# Altium footprint library mix.PcbLib: 25 footprints (part 2 of 2)
Each footprint in its own frame and in the unit in brackets; x right, y up, seen from the top. Pads: shape width x height; smd on the part's side, far side on the other; paste and mask are expansions set on the pad; w line width, h text height; cw(c..) or ccw(c..) is an arc to the next point about the centre after c.
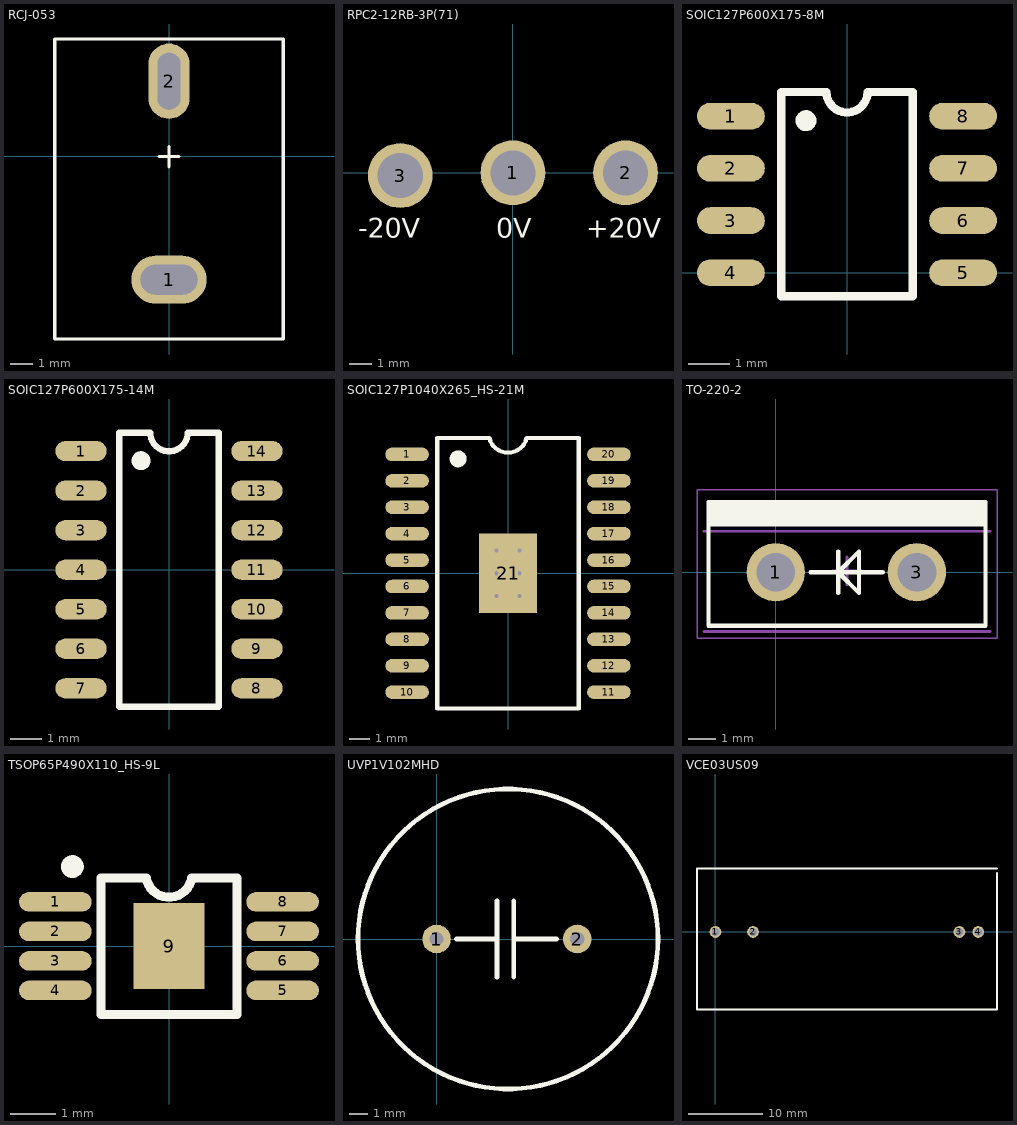
[diagram p1: the footprints below, top view; thin cyan lines are the x and y axes]

## RCJ-053 [mm]
pads (2):
  oval 3.3x2.1 hole 1.3 slot 2.5 at 0 deg: 1(0,-5.4)
  oval 1.8x3.3 hole 2.5 slot 1 at 0 deg: 2(0,3.3)
Top Overlay:
  lines w0.15: -0.425,0 0.425,0 ; 0,-0.45 0,0.425 ; -5,-8 -5,5.15 5,5.15 5,-8 -5,-8
3D body "CUI_INC_RCJ-053.step": height 19.5, standoff -4, extent -5,-8 5,5

## RPC2-12RB-3P(71) [mil]
pads (3):
  round 115 hole 80: 1(0,0) 2(200,0) 3(-200,-5)
Top Overlay:
  text "+20V" at 130,-115 h35
  text "-20V" at -275,-115 h35
  text "0V" at -30,-115 h35
3D body "RPC2-12RB-3P.stp": height 511.81, standoff -236.22, extent -570.87,-39.37 570.87,846.46

## SOIC127P600X175-8M [mm] "SOIC, 14-Leads, Body 8.65x3.90mm, Pitch 1.27mm, IPC Low Density"
height 1.75
pads (8):
  oval 1.65x0.65 smd: 1(-2.825,3.81) 2(-2.825,2.54) 3(-2.825,1.27) 4(-2.825,0) 5(2.825,0) 6(2.825,1.27) 7(2.825,2.54) 8(2.825,3.81)
Top Overlay:
  circle w0.254: c-1,3.7 r0.127
  lines w0.2: -1.6,-0.572 -1.6,4.4 -0.5,4.4 ccw(c0,4.4) 0.5,4.4 1.6,4.4 1.6,-0.572 -1.6,-0.572
3D body "SOIC08 narrow.stp": height 2, standoff 0, extent -3.082,-0.625 3.082,4.375

## SOIC127P600X175-14M [mm] "SOIC, 14-Leads, Body 8.65x3.90mm, Pitch 1.27mm, IPC Low Density"
height 1.75
pads (14):
  oval 1.65x0.65 smd: 1(-2.825,3.81) 2(-2.825,2.54) 3(-2.825,1.27) 4(-2.825,0) 5(-2.825,-1.27) 6(-2.825,-2.54) 7(-2.825,-3.81) 8(2.825,-3.81) 9(2.825,-2.54) 10(2.825,-1.27) 11(2.825,0) 12(2.825,1.27) 13(2.825,2.54) 14(2.825,3.81)
Top Overlay:
  circle w0.305: c-0.9,3.5 r0.152
  lines w0.2: -1.6,-4.4 -1.6,4.4 -0.6,4.4 ccw(c0,4.4) 0.6,4.4 1.6,4.4 1.6,-4.4 -1.6,-4.4
3D body "SOIC127P600X175-14M.step": height 1.75, standoff 0, extent -3,-4.4 3,4.4

## SOIC127P1040X265_HS-21M [mm] "SOIC, 20-Leads, Body 12.83x7.52mm, Pitch 1.27mm, Thermal Pad 3.81x2.79mm, IPC Low Density"
height 2.65
pads (21):
  oval 2.1x0.65 smd: 1(-4.85,5.715) 2(-4.85,4.445) 3(-4.85,3.175) 4(-4.85,1.905) 5(-4.85,0.635) 6(-4.85,-0.635) 7(-4.85,-1.905) 8(-4.85,-3.175) 9(-4.85,-4.445) 10(-4.85,-5.715) 11(4.85,-5.715) 12(4.85,-4.445) 13(4.85,-3.175) 14(4.85,-1.905) 15(4.85,-0.635) 16(4.85,0.635) 17(4.85,1.905) 18(4.85,3.175) 19(4.85,4.445) 20(4.85,5.715)
  rect 2.79x3.81 smd: 21(0,0)
via 0.55,-1.1 diameter 0.5 hole 0.2
via -0.55,-1.1 diameter 0.5 hole 0.2
via 0.55,0 diameter 0.5 hole 0.2
via -0.55,0 diameter 0.5 hole 0.2
via 0.55,1.1 diameter 0.5 hole 0.2
via -0.55,1.1 diameter 0.5 hole 0.2
Top Overlay:
  circle w0.406: c-2.4,5.5 r0.203
  lines w0.2: -3.4,-6.5 3.4,-6.5 3.4,6.5 0.9,6.5 cw(c0,6.729) -0.9,6.5 -3.4,6.5 -3.4,-6.5
3D body "SOIC127P1040X265_HS-21M.step": height 2.65, standoff 0, extent -5.202,-6.5 5.202,6.5

## TO-220-2 [mm]
height 18
pads (2):
  round 2.1 hole 1.4: 1(0,0) 3(5.08,0)
Top Overlay:
  rectangle: -2.425,1.65 7.55,2.525
  lines w0.15: 1.25,0 3.85,0 ; 2.25,-0.75 2.25,0.75 ; -2.425,-1.925 7.55,-1.925 7.55,2.525 -2.425,2.525 -2.425,-1.925 ; 2.25,0 3,0.75 3,-0.75 2.25,0
Mechanical 13:
  lines w0.1: -2.585,-2.129 7.715,-2.129 ; -2.585,1.471 7.715,1.471
Mechanical 15:
  lines w0.05: -2.835,-2.379 7.965,-2.379 7.965,2.971 -2.835,2.971 -2.835,-2.379
  lines w0.1: 2.065,0.051 3.065,0.051 ; 2.565,-0.449 2.565,0.551
3D body: height 2.79, standoff 0, extent -0.64,-0.199 0.69,0.301
3D body: height 0, standoff -1.6, extent -0.385,-0.199 0.435,0.301
3D body: height 2.79, standoff 0, extent 4.44,-0.199 5.77,0.301
3D body: height 0, standoff -1.6, extent 4.695,-0.199 5.515,0.301
3D body: height 12.8, standoff 2.79, extent -2.585,-2.129 7.715,2.721
3D body: height 14.33, standoff 12.8, extent -2.41,1.471 7.54,2.721
3D body: height 14.37, standoff 14.33, extent -2.41,1.471 2.19,2.721
3D body: height 14.37, standoff 14.33, extent 2.941,1.471 7.54,2.721
3D body: height 18.18, standoff 18.14, extent -2.41,1.471 2.19,2.721
3D body: height 18.18, standoff 18.14, extent 2.941,1.471 7.54,2.721
3D body: height 14.48, standoff 14.36, extent -2.41,1.471 1.829,2.721
3D body: height 14.48, standoff 14.36, extent 3.302,1.471 7.54,2.721
3D body: height 18.14, standoff 18.03, extent -2.41,1.471 1.829,2.721
3D body: height 18.14, standoff 18.03, extent 3.302,1.471 7.54,2.721
3D body: height 14.65, standoff 14.47, extent -2.41,1.471 1.496,2.721
3D body: height 14.65, standoff 14.47, extent 3.635,1.471 7.54,2.721
3D body: height 18.03, standoff 17.85, extent -2.41,1.471 1.496,2.721
3D body: height 18.03, standoff 17.85, extent 3.635,1.471 7.54,2.721
3D body: height 14.89, standoff 14.65, extent -2.41,1.471 1.204,2.721
3D body: height 14.89, standoff 14.65, extent 3.927,1.471 7.54,2.721
3D body: height 17.86, standoff 17.61, extent -2.41,1.471 1.204,2.721
3D body: height 17.86, standoff 17.61, extent 3.927,1.471 7.54,2.721
3D body: height 15.19, standoff 14.89, extent -2.41,1.471 0.965,2.721
3D body: height 15.19, standoff 14.89, extent 4.166,1.471 7.54,2.721
3D body: height 17.62, standoff 17.32, extent -2.41,1.471 0.965,2.721
3D body: height 17.62, standoff 17.32, extent 4.166,1.471 7.54,2.721
3D body: height 15.52, standoff 15.18, extent -2.41,1.471 0.787,2.721
3D body: height 15.52, standoff 15.18, extent 4.344,1.471 7.54,2.721
3D body: height 17.32, standoff 16.99, extent -2.41,1.471 0.787,2.721
3D body: height 17.32, standoff 16.99, extent 4.344,1.471 7.54,2.721
3D body: height 15.88, standoff 15.51, extent -2.41,1.471 0.677,2.721
3D body: height 15.88, standoff 15.51, extent 4.453,1.471 7.54,2.721
3D body: height 16.99, standoff 16.63, extent -2.41,1.471 0.677,2.721
3D body: height 16.99, standoff 16.63, extent 4.453,1.471 7.54,2.721
3D body: height 16.25, standoff 15.87, extent -2.41,1.471 0.64,2.721
3D body: height 16.25, standoff 15.87, extent 4.49,1.471 7.54,2.721
3D body: height 16.63, standoff 16.25, extent -2.41,1.471 0.64,2.721
3D body: height 16.63, standoff 16.25, extent 4.49,1.471 7.54,2.721
3D body: height 19.05, standoff 18.18, extent -2.41,1.471 7.54,2.721

## TSOP65P490X110_HS-9L [mm] "TSOP, 8-Leads, Body 3.00x3.00mm, Pitch 0.65mm, Thermal Pad 1.89x1.57mm, IPC High Density"
height 1.1
pads (9):
  oval 1.6x0.43 smd mask+0: 1(-2.5,0.975) 2(-2.5,0.325) 3(-2.5,-0.325) 4(-2.5,-0.975) 5(2.5,-0.975) 6(2.5,-0.325) 7(2.5,0.325) 8(2.5,0.975)
  rect 1.57x1.89 smd: 9(0,0)
Top Overlay:
  circle w0.25: c-2.125,1.75 r0.125
  lines w0.2: -1.5,-1.5 1.5,-1.5 1.5,1.5 0.5,1.5 cw(c0,1.582) -0.5,1.5 -1.5,1.5 -1.5,-1.5
3D body "TSOP65P490X110_HS-9L.step": height 1.1, standoff 0, extent -2.45,-1.55 2.45,1.55

## UVP1V102MHD [mil]
pads (2):
  round 60 hole 30: 1(0,0) 2(295.28,0)
Top Overlay:
  circle w10: c150,0 r314.96
  lines w9.84: 41.34,0 99.41,0 ; 196.85,0 251.97,0
  lines w10: 96.99,0 127,0 ; 127,-80 127,80 ; 162,-80 162,80 ; 167.02,0 197.04,0
3D body: height 1062.99, standoff 78.74, extent -164.96,-314.96 464.96,314.96

## VCE03US09 [mm]
height 30
pads (4):
  round 1.6 hole 1.1: 1(0,0) 2(5.08,0) 3(33.02,0) 4(35.56,0)
Top Overlay:
  lines w0.254: -2.5,-10.5 38.1,-10.5 38.1,8 ; -2.5,8.6 38.1,8.6 ; -2.5,-10.5 -2.5,8.6 ; -2.5,-10.486 -2.49,-10.496 ; 33.56,-10.496 33.56,-10.496
3D body: height 0, standoff -4.8, extent 34.923,-0.639 36.197,0.639
3D body: height 0, standoff -4.8, extent 32.363,-0.639 33.637,0.639
3D body: height 0, standoff -4.8, extent 4.463,-0.639 5.737,0.639
3D body: height 0, standoff -4.8, extent -0.637,-0.639 0.638,0.639
3D body: height 19.1, standoff 0, extent -2.5,-10.5 38.1,8.6